# EAGLE library part MUXIN-16 (library BadassMIDI)
Footprint for BadassMIDI MUXIN-16, roxxxtar.com/badassmidi-muxin-16
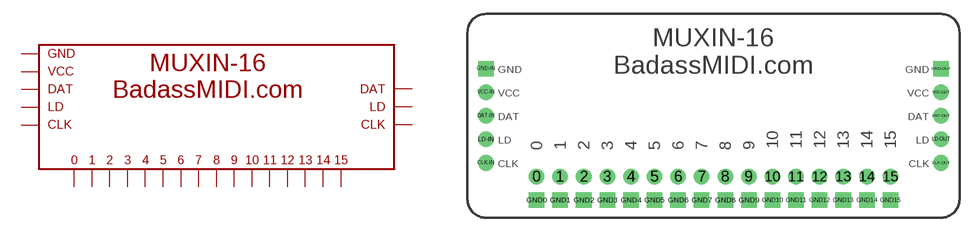
[diagram p1: symbol with the pads of MUXIN-16; footprint MUXIN-16]

Designator prefix U

## MUXIN-16  [MUXIN-16]
0  0
1  1
2  2
3  3
4  4
5  5
6  6
7  7
8  8
9  9
10  10
11  11
12  12
13  13
14  14
15  15
CLK-IN  CLK-IN
CLK-OUT  CLK-OUT
DAT-IN  DAT-IN
DAT-OUT  DAT-OUT
GND0  GND-IN
GND1  GND-IN
GND2  GND-IN
GND3  GND-IN
GND4  GND-IN
GND5  GND-IN
GND6  GND-IN
GND7  GND-IN
GND8  GND-IN
GND9  GND-IN
GND10  GND-IN
GND11  GND-IN
GND12  GND-IN
GND13  GND-IN
GND14  GND-IN
GND15  GND-IN
GND-IN  GND-IN
GND-OUT  GND-IN
LD-IN  LD-IN
LD-OUT  LD-OUT
VCC-IN  VCC-IN
VCC-OUT  VCC-IN

## Footprint MUXIN-16 (pad centres in mm)
drill 1 pad 1.676: 0 -19.05,-6.555
drill 0.9 pad 1.676: 1 -16.51,-6.555; 2 -13.97,-6.555; 3 -11.43,-6.555; 4 -8.89,-6.555; 5 -6.35,-6.555; 6 -3.81,-6.555; 7 -1.27,-6.555; 8 1.27,-6.555; 9 3.81,-6.555; 10 6.35,-6.555; 11 8.89,-6.555; 12 11.43,-6.555; 13 13.97,-6.555; 14 16.51,-6.555; 15 19.05,-6.555; CLK-IN -24.5,-5.08; CLK-OUT 24.5,-5.08; DAT-IN -24.5,0; DAT-OUT 24.5,0; LD-IN -24.5,-2.54; LD-OUT 24.5,-2.54; VCC-IN -24.5,2.54; VCC-OUT 24.5,2.54
drill 0.9 pad 1.676 square: GND0 -19.05,-9.095; GND1 -16.51,-9.095; GND2 -13.97,-9.095; GND3 -11.43,-9.095; GND4 -8.89,-9.095; GND5 -6.35,-9.095; GND6 -3.81,-9.095; GND7 -1.27,-9.095; GND8 1.27,-9.095; GND9 3.81,-9.095; GND10 6.35,-9.095; GND11 8.89,-9.095; GND12 11.43,-9.095; GND13 13.97,-9.095; GND14 16.51,-9.095; GND15 19.05,-9.095; GND-IN -24.5,5.08; GND-OUT 24.5,5.08